# Altium footprint library GateWay.PcbLib: 34 footprints (part 2 of 3)
Each footprint in its own frame and in the unit in brackets; x right, y up, seen from the top. Pads: shape width x height; smd on the part's side, far side on the other; paste and mask are expansions set on the pad; w line width, h text height; cw(c..) or ccw(c..) is an arc to the next point about the centre after c.
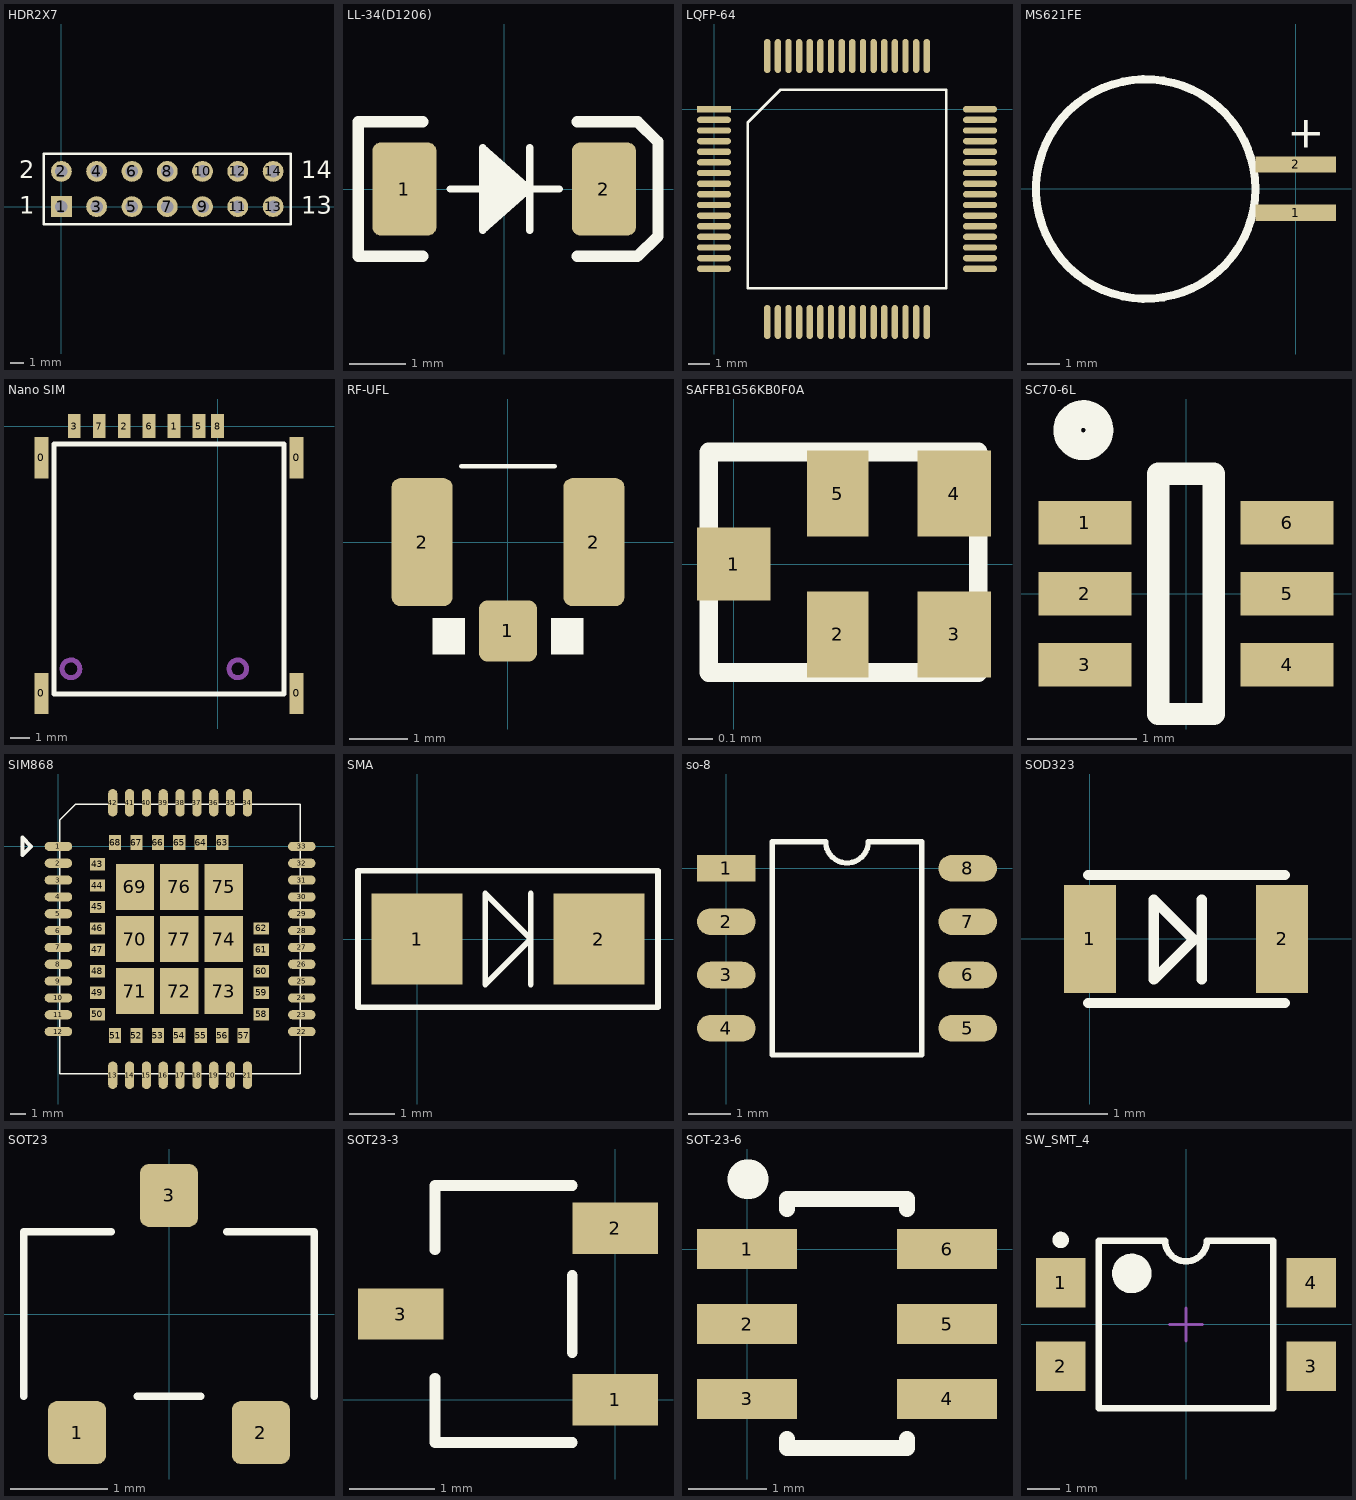
[diagram p1: the footprints below, top view; thin cyan lines are the x and y axes]

## HDR2X7 [mm] "Connector; Header; 7x2 Position"
height 1.18
pads (14):
  rect 1.5x1.5 hole 0.9: 1(0,0)
  round 1.5 hole 0.9: 2(0,2.54) 3(2.54,0) 4(2.54,2.54) 5(5.08,0) 6(5.08,2.54) 7(7.62,0) 8(7.62,2.54) 9(10.16,0) 10(10.16,2.54) 11(12.7,0) 12(12.7,2.54) 13(15.24,0) 14(15.24,2.54)
Top Overlay:
  lines w0.2: -1.27,-1.27 16.51,-1.27 16.51,3.81 -1.27,3.81 -1.27,-1.27
  text "13" at 17.272,-0.508 h1.27
  text "14" at 17.272,2.032 h1.27
  text "1" at -3.048,-0.508 h1.27
  text "2" at -3.048,2.032 h1.27

## LL-34(D1206) [mil]
height 46.46
pads (2):
  rrect25% 45x65 smd: 1(-70,0) 2(70,0)
Top Overlay:
  region: 12,7 7,7 7,-8 12,-8
  region: 7,12 1,12 1,-12 7,-12
  region: 1,18 -6,18 -6,-18 1,-18
  region: -6,24 -14,24 -14,-24 -6,-24
  lines w5: -38,0 39,0 ; 18,-29 18,0 ; 18,29 18,0 ; 18,0 -15,-29 -15,0 -15,29 18,0
  lines w8: -57.06,-47.24 -102.34,-47.24 -102.34,47.24 -57.06,47.24 ; 51.21,-47.24 93.53,-47.24 108,-33.21 108,33.06 93.67,47.24 51.21,47.24
3D body: height 56.1, standoff -0.98, extent -69.9,-27.54 67.9,29.54

## LQFP-64 [mm]
height 1.18
pads (64):
  rect 1.6x0.3 smd: 1(0,0)
  oval 1.6x0.3 smd: 2(0,-0.5) 3(0,-1) 4(0,-1.5) 5(0,-2) 6(0,-2.5) 7(0,-3) 8(0,-3.5) 9(0,-4) 10(0,-4.5) 11(0,-5) 12(0,-5.5) 13(0,-6) 14(0,-6.5) 15(0,-7) 16(0,-7.5) 33(12.5,-7.5) 34(12.5,-7) 35(12.5,-6.5) 36(12.5,-6) 37(12.5,-5.5) 38(12.5,-5) 39(12.5,-4.5) 40(12.5,-4) 41(12.5,-3.5) 42(12.5,-3) 43(12.5,-2.5) 44(12.5,-2) 45(12.5,-1.5) 46(12.5,-1) 47(12.5,-0.5) 48(12.5,0)
  oval 0.3x1.6 smd: 17(2.5,-10) 18(3,-10) 19(3.5,-10) 20(4,-10) 21(4.5,-10) 22(5,-10) 23(5.5,-10) 24(6,-10) 25(6.5,-10) 26(7,-10) 27(7.5,-10) 28(8,-10) 29(8.5,-10) 30(9,-10) 31(9.5,-10) 32(10,-10) 49(10,2.5) 50(9.5,2.5) 51(9,2.5) 52(8.5,2.5) 53(8,2.5) 54(7.5,2.5) 55(7,2.5) 56(6.5,2.5) 57(6,2.5) 58(5.5,2.5) 59(5,2.5) 60(4.5,2.5) 61(4,2.5) 62(3.5,2.5) 63(3,2.5) 64(2.5,2.5)
Top Overlay:
  lines w0.127: 1.585,-8.415 1.585,-0.62 3.12,0.915 10.915,0.915 10.915,-8.415 1.585,-8.415

## MS621FE [mm]
height 1.18
pads (2):
  rect 2.5x0.5 smd: 1(0,-0.749) 2(0,0.749)
Top Overlay:
  circle w0.254: c-4.648,-0.013 r3.4
  text "+" at -0.254,1.27 h1.02

## Nano SIM [mm]
height 1.18
pads (11):
  rect 0.7x2.1 smd: 0(-8.97,-13.615) 0(-8.97,-1.615) 0(4.02,-13.615) 0(4.02,-1.615)
  rect 0.65x1.23 smd: 1(-2.22,0) 2(-4.76,0) 3(-7.3,0) 5(-0.95,0) 6(-3.49,0) 7(-6.03,0) 8(0,0)
Top Overlay:
  lines w0.254: -8.331,-13.64 -8.331,-0.914 3.378,-0.914 3.378,-13.64 -8.331,-13.64
Mechanical 1:
  circle w0.254: c-7.47,-12.365 r0.45
  circle w0.254: c1.03,-12.365 r0.45

## RF-UFL [mm]
height 1.18
pads (3):
  rrect30% 1x1.05 smd: 1(0,-1.525)
  rrect30% 1.05x2.2 smd: 2(-1.475,0) 2(1.475,0)
Top Overlay:
  rectangle: 0.734,-1.928 1.3,-1.3
  rectangle: -1.3,-1.928 -0.734,-1.3
  lines w0.076: -0.8,1.3 0.8,1.3
3D body: height 1.25, standoff 0, extent -1.7,-1.55 1.7,1.55

## SAFFB1G56KB0F0A [mm]
height 1.1
pads (5):
  rect 0.3x0.3 smd: 1(0,0)
  rect 0.25x0.35 smd: 2(0.425,-0.288) 5(0.425,0.288)
  rect 0.3x0.35 smd: 3(0.9,-0.288) 4(0.9,0.288)
Top Overlay:
  lines w0.076: -0.102,-0.443 0.998,-0.443 0.998,0.457 -0.102,0.457 -0.102,-0.443

## SC70-6L [mm]
height 1.1
pads (6):
  rect 0.85x0.4 smd: 1(-0.925,0.65) 2(-0.925,0) 3(-0.925,-0.65) 4(0.925,-0.65) 5(0.925,0) 6(0.925,0.65)
Top Overlay:
  circle w0.254: c-0.94,1.499 r0.148
  lines w0.203: -0.254,-1.1 -0.254,1.1 0.254,1.1 0.254,-1.1 -0.254,-1.1

## SIM868 [mm]
height 1.18
pads (77):
  oval 1.8x0.6 smd: 1(0,0) 2(0,-1.1) 3(0,-2.2) 4(0,-3.3) 5(0,-4.4) 6(0,-5.5) 7(0,-6.6) 8(0,-7.7) 9(0,-8.8) 10(0,-9.9) 11(0,-11) 12(0,-12.1) 22(15.9,-12.1) 23(15.9,-11) 24(15.9,-9.9) 25(15.9,-8.8) 26(15.9,-7.7) 27(15.9,-6.6) 28(15.9,-5.5) 29(15.9,-4.4) 30(15.9,-3.3) 31(15.9,-2.2) 32(15.9,-1.1) 33(15.9,0)
  oval 0.6x1.8 smd: 13(3.55,-14.95) 14(4.65,-14.95) 15(5.75,-14.95) 16(6.85,-14.95) 17(7.95,-14.95) 18(9.05,-14.95) 19(10.15,-14.95) 20(11.25,-14.95) 21(12.35,-14.95) 34(12.35,2.85) 35(11.25,2.85) 36(10.15,2.85) 37(9.05,2.85) 38(7.95,2.85) 39(6.85,2.85) 40(5.75,2.85) 41(4.65,2.85) 42(3.55,2.85)
  rect 1x0.8 smd: 43(2.549,-1.159) 44(2.549,-2.559) 45(2.549,-3.959) 46(2.549,-5.359) 47(2.549,-6.759) 48(2.549,-8.159) 49(2.549,-9.559) 50(2.549,-10.959) 58(13.251,-10.959) 59(13.251,-9.559) 60(13.251,-8.159) 61(13.251,-6.759) 62(13.251,-5.359)
  rect 0.8x1 smd: 51(3.7,-12.359) 52(5.1,-12.359) 53(6.5,-12.359) 54(7.9,-12.359) 55(9.3,-12.359) 56(10.7,-12.359) 57(12.1,-12.359) 63(10.7,0.25) 64(9.3,0.25) 65(7.9,0.25) 66(6.5,0.25) 67(5.1,0.25) 68(3.7,0.25)
  rect 2.5x3 smd: 69(5,-2.65) 70(5,-6.05) 71(5,-9.45) 72(7.9,-9.45) 73(10.8,-9.45) 74(10.8,-6.05) 75(10.8,-2.65) 76(7.9,-2.65) 77(7.9,-6.05)
Top Overlay:
  lines w0.102: 0.1,-14.85 15.8,-14.85 15.8,2.75 1.116,2.75 0.1,1.734 0.1,-12.09 0.1,-14.85
  lines w0.254: -2.349,-0.572 -1.778,0 -2.349,0.572 -2.349,-0.572

## SMA [mm]
height 1.18
pads (2):
  rect 2x2 smd: 1(0,0) 2(4,0)
Top Overlay:
  lines w0.127: 2.5,-1 2.5,1 ; -1.3,-1.5 5.3,-1.5 5.3,1.5 -1.3,1.5 -1.3,-1.5 ; 1.5,-1 2.5,0 1.5,1 1.5,-1

## so-8 [mil]
height 46.46
pads (8):
  rect 55x25 smd: 1(0,0)
  oval 55x25 smd: 2(0,-50) 3(0,-100) 4(0,-150) 5(226.38,-150) 6(226.38,-100) 7(226.38,-50) 8(226.38,0)
Top Overlay:
  lines w5: 43.19,-175 183.19,-175 183.19,25 133.19,25 cw(c113.19,25) 93.19,25 43.19,25 43.19,-175

## SOD323 [mm]
height 1.18
pads (2):
  rect 0.65x1.35 smd: 1(0,0) 2(2.4,0)
Top Overlay:
  lines w0.127: -0.025,-0.8 2.438,-0.8 ; -0.025,0.8 2.438,0.8 ; 1.397,-0.508 1.397,0.492 ; 0.797,-0.508 0.797,0.492 1.297,-0.008 0.797,-0.508

## SOT23 [mm]
height 1.18
pads (3):
  rrect30% 0.6x0.65 smd: 1(-0.95,-1.225) 2(0.95,-1.225) 3(0,1.225)
Top Overlay:
  lines w0.076: -1.5,-0.85 -1.5,0.85 -0.598,0.85 ; -0.33,-0.85 0.33,-0.85 ; 0.598,0.85 1.5,0.85 1.5,-0.85
3D body: height 1.2, standoff 0, extent -1.45,-1.4 1.45,1.4

## SOT23-3 [mm]
height 1.18
pads (3):
  rect 1x0.6 smd: 1(0,0) 2(0,2) 3(-2.5,1)
Top Overlay:
  lines w0.127: -2.1,0.25 -2.1,-0.5 -0.5,-0.5 ; -2.1,1.75 -2.1,2.5 -0.5,2.5 ; -0.5,0.55 -0.5,1.45

## SOT-23-6 [mil]
height 46.46
pads (6):
  rect 50x20 smd: 1(0,0) 2(0,-37.4) 3(0,-74.8) 4(100,-74.8) 5(100,-37.4) 6(100,0)
Top Overlay:
  lines w8: 20,-95 20,-99.32 80,-99.32 80,-95 ; 20,20 20,25 80,25 80,20
  lines w19.68: 0,35 1,35

## SW_SMT_4 [mm] "DIP; 4 Leads; Row Spacing 7.62 mm; Pitch 2.54 mm"
height 5.6
pads (4):
  rect 1.5x1.5 smd: 1(-3.81,1.27) 2(-3.81,-1.27) 3(3.81,-1.27) 4(3.81,1.27)
Top Overlay:
  circle w0.25: c-3.81,2.57 r0.125
  circle w0.6: c-1.65,1.55 r0.3
  lines w0.2: -2.65,-2.55 -2.65,2.55 -0.635,2.55 ccw(c0,2.55) 0.635,2.55 2.65,2.55 2.65,-2.55 -2.65,-2.55
Mechanical 15:
  lines w0.1: -0.5,0 0.5,0 ; 0,-0.5 0,0.5